# EAGLE library part MMA8451QT (library circuit_tree)
IC
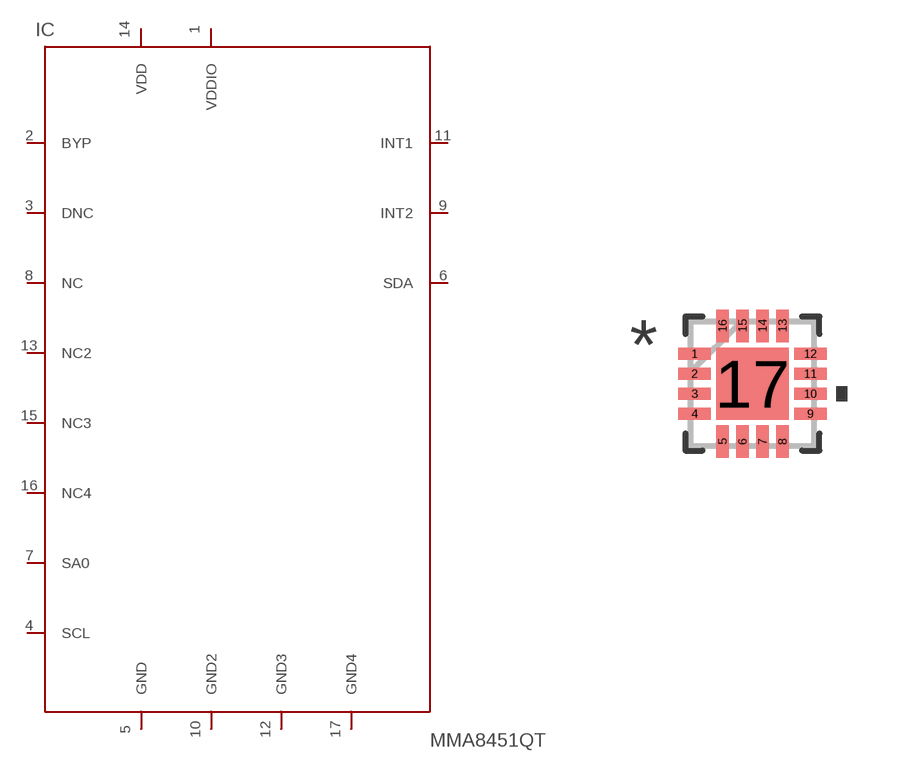
[diagram p11: symbol with the pads of QFN-16; footprint QFN-16]

Designator prefix IC

## MMA8451QT  [QFN-16]
1  VDDIO  pas
2  BYP  pas
3  DNC  pas
4  SCL  pas
5  GND  pas
6  SDA  pas
7  SA0  pas
8  NC  pas
9  INT2  pas
10  GND2  pas
11  INT1  pas
12  GND3  pas
13  NC2  pas
14  VDD  pas
15  NC3  pas
16  NC4  pas
17  GND4  pas

## Footprint QFN-16 (pad centres in mm)
smd 0.813 x 0.305: 1 -1.448,0.75; 2 -1.448,0.25; 3 -1.448,-0.25; 4 -1.448,-0.75; 9 1.448,-0.75; 10 1.448,-0.25; 11 1.448,0.25; 12 1.448,0.75
smd 0.305 x 0.813: 5 -0.75,-1.448; 6 -0.25,-1.448; 7 0.25,-1.448; 8 0.75,-1.448; 13 0.75,1.448; 14 0.25,1.448; 15 -0.25,1.448; 16 -0.75,1.448
smd 1.803 x 1.803: 17 0,0